# Altium footprint library CB-5.PcbLib: 1 footprints
Each footprint in its own frame and in the unit in brackets; x right, y up, seen from the top. Pads: shape width x height; smd on the part's side, far side on the other; paste and mask are expansions set on the pad; w line width, h text height; cw(c..) or ccw(c..) is an arc to the next point about the centre after c.
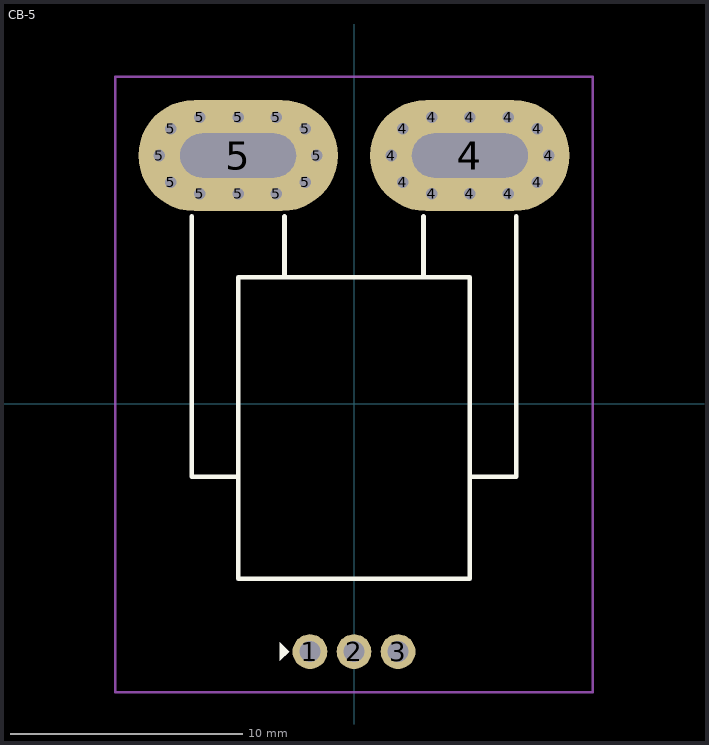
[diagram p0: the footprint, top view; thin cyan lines are the x and y axes]

## CB-5 [mm]
pads (29):
  round 1.5 hole 0.9: 1(-1.9,-10.7) 2(0,-10.7) 3(1.9,-10.7)
  round 0.8 hole 0.5: 4(1.6,10.7) 4(2.1,9.55) 4(2.1,11.85) 4(3.35,9.05) 4(3.35,12.35) 4(5,9.05) 4(5,12.35) 4(6.65,9.05) 4(6.65,12.35) 4(7.9,9.55) 4(7.9,11.85) 4(8.4,10.7) 5(-8.4,10.7) 5(-7.9,9.55) 5(-7.9,11.85) 5(-6.65,9.05) 5(-6.65,12.35) 5(-5,9.05) 5(-5,12.35) 5(-3.35,9.05) 5(-3.35,12.35) 5(-2.1,9.55) 5(-2.1,11.85) 5(-1.6,10.7)
  oval 8.6x4.8 hole 1.9 slot 5 at 0 deg: 4(5,10.7) 5(-5,10.7)
Top Overlay:
  region: -3.2,-11.1 -3.2,-10.3 -2.8,-10.7
  lines w0.2: -7,8.075 -7,-3.15 -5,-3.15 ; -3,5.45 -3,8.075 ; 3,5.45 3,8.075 ; 7,8.075 7,-3.15 5,-3.15 ; -5,-3.15 -5,5.45 -4,5.45 4,5.45 5,5.45 5,-3.15 ; -5,-3.15 -5,-7.55 5,-7.55 5,-3.15
Top Courtyard:
  lines w0.1: -10.3,-12.45 -10.3,14.1 10.3,14.1 10.3,-12.45 0,-12.45 -10.3,-12.45
3D body "ACS758LCB-100B-PFF-T--3DModel-STEP-56544.STEP": height 8, standoff -3.7, extent -7,-11.153 7,11.45